# Altium footprint library V2S.PcbLib: 37 footprints (part 1 of 3)
Each footprint in its own frame and in the unit in brackets; x right, y up, seen from the top. Pads: shape width x height; smd on the part's side, far side on the other; paste and mask are expansions set on the pad; w line width, h text height; cw(c..) or ccw(c..) is an arc to the next point about the centre after c.
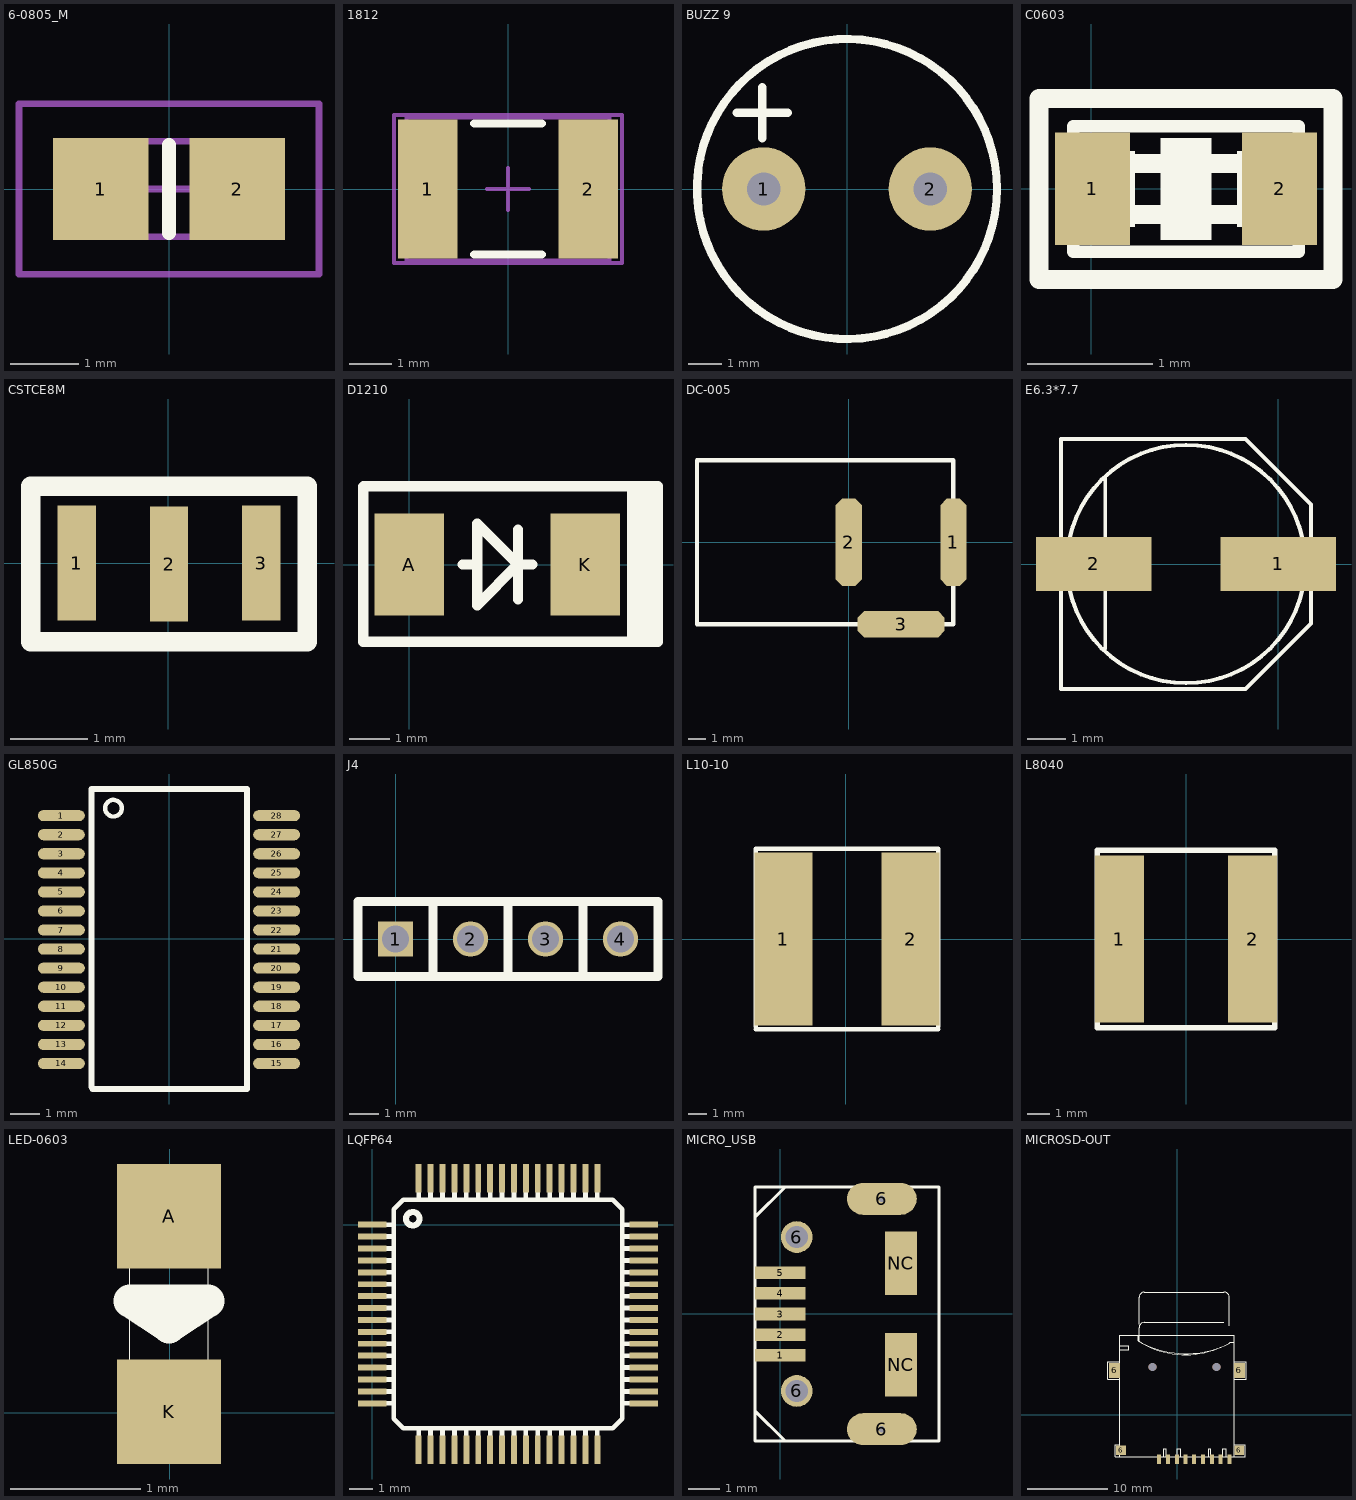
[diagram p0: the footprints below, top view; thin cyan lines are the x and y axes]

## 6-0805_M [mm] "Chip Resistor, Body 2.0x1.2mm, IPC Low Density"
height 0.7
pads (2):
  rect 1.4x1.5 smd: 1(-1,0) 2(1,0)
Top Overlay:
  lines w0.2: 0,-0.65 0,0.65
Mechanical 13:
  lines w0.1: -1.075,-0.7 -1.075,0.7 1.075,0.7 1.075,-0.7 -1.075,-0.7
Mechanical 15:
  lines w0.1: -0.5,0 0.5,0 ; 0,-0.5 0,0.5 ; -2.2,-1.25 -2.2,1.25 2.2,1.25 2.2,-1.25 -2.2,-1.25
3D body: height 0.7, standoff 0, extent -1.075,-0.7 1.075,0.7

## 1812 [mm] "Chip Capacitor, Body 4.5x3.2mm, IPC High Density"
height 1.4
pads (2):
  rect 1.4x3.3 smd: 1(-1.9,0) 2(1.9,0)
Top Overlay:
  lines w0.2: -0.8,-1.55 0.8,-1.55 ; -0.8,1.55 0.8,1.55
Mechanical 13:
  lines w0.1: -2.4,-1.7 2.4,-1.7 2.4,1.7 -2.4,1.7 -2.4,-1.7
Mechanical 15:
  lines w0.1: -0.5,0 0.5,0 ; 0,-0.5 0,0.5 ; -2.7,-1.75 2.7,-1.75 2.7,1.75 -2.7,1.75 -2.7,-1.75
3D body: height 1.4, standoff 0, extent -2.4,-1.7 2.4,1.7

## BUZZ 9 [mm]
pads (2):
  round 2.5 hole 1: 1(-2.51,0.012) 2(2.49,0.012)
Top Overlay:
  circle w0.25: c-0.01,0.012 r4.5
  lines w0.254: -3.312,2.298 -1.788,2.298 ; -2.55,1.536 -2.55,3.06

## C0603 [mm]
pads (2):
  rect 0.6x0.9 smd: 1(0.01,0) 2(1.51,0)
Top Overlay:
  rectangle: 0.56,-0.3 0.96,0.3
  rectangle: 0.049,-0.305 0.354,0.305
  rectangle: 1.167,-0.305 1.471,0.305
  rectangle: 1.167,-0.305 1.471,0.305
  rectangle: 0.557,-0.406 0.963,0.406
  lines w0.1: -0.14,-0.5 1.66,-0.5 1.66,0.5 -0.14,0.5 -0.14,-0.5
  lines w0.15: 0.252,-0.203 1.268,-0.203 ; 0.252,0.203 1.268,0.203 ; 0.76,-0.051 0.76,0.051 ; -0.415,-0.725 1.935,-0.725 1.935,0.725 -0.415,0.725 -0.415,-0.725

## CSTCE8M [mm]
pads (3):
  rect 0.5x1.5 smd: 1(-1.192,0) 2(0.008,-0.013) 3(1.208,0)
Top Overlay:
  lines w0.254: -1.792,-1.025 1.808,-1.025 1.808,1 -1.792,1 -1.792,-1.025

## D1210 [mm]
pads (2):
  rect 1.7x2.5 smd: A(-0.005,-0.004) K(4.313,-0.004)
Top Overlay:
  lines w0.254: -1.128,1.9 -1.128,-1.888 6.091,-1.888 ; -1.116,1.912 6.091,1.912 ; 1.311,0.001 1.661,0.001 ; 2.661,-0.849 2.661,0.851 ; 3.011,0.001 2.661,0.001 ; 5.461,-1.838 5.461,1.912 ; 5.583,-1.884 5.583,1.875 ; 6.091,-1.884 6.091,1.875 ; 2.661,0.001 1.661,1.001 1.661,-0.999 2.661,0.001
  lines w0.5: 5.854,-1.667 5.854,1.791

## DC-005 [mm]
pads (3):
  oct 1.5x5 hole 0.1: 1(5.993,-0.009) 2(-0.007,-0.009)
  oct 5x1.5 hole 0.1: 3(2.993,-4.709)
Top Overlay:
  lines w0.254: -8.707,-4.709 5.993,-4.709 5.993,4.691 -8.707,4.691 -8.707,-4.709
Keep-Out Layer:
  lines w0.4: -0.007,-1.509 -0.007,-0.009 -0.007,1.491 ; 1.493,-4.709 2.993,-4.709 4.493,-4.709 ; 5.993,-1.509 5.993,-0.009 5.993,1.491

## E6.3*7.7 [mm]
pads (2):
  rect 3x1.4 smd: 1(-0.002,0.011) 2(-4.802,0.011)
Top Overlay:
  circle w0.102: c-2.402,0.011 r3.1
  rectangle: -6.052,-0.339 -5.452,0.361
  rectangle: 0.648,-0.339 1.248,0.361
  lines w0.102: -5.652,-0.939 -5.652,-3.239 ; -5.652,0.961 -5.652,3.261 ; -5.352,-0.939 ccw(c-2.402,0.011) 0.548,-0.939 ; -5.352,0.961 cw(c-2.402,0.011) 0.548,0.961 ; -4.502,-2.189 -4.502,2.261 ; 0.848,-0.939 0.848,-1.539 ; 0.848,0.961 0.848,1.561 ; -5.652,-3.239 -0.852,-3.239 ; -5.652,-3.239 -5.652,3.261 ; -5.652,-3.239 -0.852,-3.239 ; -5.652,3.261 -0.852,3.261 ; -5.652,3.261 -0.852,3.261 ; -0.852,-3.239 0.848,-1.539 ; -0.852,-3.239 0.848,-1.539 ; -0.852,3.261 0.848,1.561 ; -0.852,3.261 0.848,1.561 ; 0.848,-1.539 0.848,1.561

## GL850G [mm]
height 2
pads (28):
  oval 1.6x0.38 smd: 1(-3.683,4.191) 2(-3.683,3.541) 3(-3.683,2.891) 4(-3.683,2.241) 5(-3.683,1.591) 6(-3.683,0.941) 7(-3.683,0.291) 8(-3.683,-0.359) 9(-3.683,-1.009) 10(-3.683,-1.659) 11(-3.683,-2.309) 12(-3.683,-2.959) 13(-3.683,-3.609) 14(-3.683,-4.259) 15(3.658,-4.259) 16(3.658,-3.609) 17(3.658,-2.959) 18(3.658,-2.309) 19(3.658,-1.659) 20(3.658,-1.009) 21(3.658,-0.359) 22(3.658,0.291) 23(3.658,0.941) 24(3.658,1.591) 25(3.658,2.241) 26(3.658,2.891) 27(3.658,3.541) 28(3.658,4.191)
Top Overlay:
  circle w0.15: c-1.905,4.445 r0.284
  lines w0.2: -2.65,-5.063 -2.65,5.1 2.65,5.1 2.65,-5.13 -2.617,-5.13

## J4 [mm]
pads (4):
  rect 1.2x1.2 hole 0.9: 1(-0.001,0.01)
  round 1.2 hole 0.9: 2(2.539,0.01) 3(5.079,0.01) 4(7.619,0.01)
Top Overlay:
  lines w0.305: -1.271,-0.99 -1.271,-1.26 ; 1.269,-1.26 1.269,1.28 ; -1.271,-1.26 3.809,-1.26 ; -1.271,-1.26 -1.271,1.28 3.809,1.28 ; 3.809,-1.26 3.809,1.28 ; 3.809,-1.26 6.349,-1.26 ; 3.809,1.28 6.349,1.28 ; 6.349,-1.26 6.349,1.28 ; 6.349,-1.26 6.349,1.28 ; 6.349,-1.26 8.889,-1.26 8.889,1.28 6.349,1.28

## L10-10 [mm]
pads (2):
  rect 3.2x9.5 smd: 1(-3.429,0) 2(3.556,0)
Top Overlay:
  lines w0.254: -4.953,-4.953 5.08,-4.953 ; -4.953,-4.826 -4.953,4.953 5.08,4.953 5.08,-4.826

## L8040 [mm]
pads (2):
  rect 2.2x7.5 smd: 1(-3.002,0.005) 2(2.998,0.005)
Top Overlay:
  lines w0.254: -4.002,-3.995 3.998,-3.995 3.998,4.005 -4.002,4.005 -4.002,-3.995

## LED-0603 [mm]
pads (2):
  rect 0.8x0.8 smd: A(-0.004,1.506) K(-0.004,0.007)
Top Overlay:
  lines w0: -0.304,-0.043 0.296,-0.043 0.296,1.556 -0.304,1.556 -0.304,-0.043
  lines w0.25: -0.304,0.856 -0.004,0.657 0.296,0.856 -0.304,0.856

## LQFP64 [mm]
pads (64):
  rect 1.2x0.25 smd: 1(-0.005,0.01) 2(-0.005,-0.49) 3(-0.005,-0.99) 4(-0.005,-1.49) 5(-0.005,-1.99) 6(-0.005,-2.49) 7(-0.005,-2.99) 8(-0.005,-3.49) 9(-0.005,-3.99) 10(-0.005,-4.49) 11(-0.005,-4.99) 12(-0.005,-5.49) 13(-0.005,-5.99) 14(-0.005,-6.49) 15(-0.005,-6.99) 16(-0.005,-7.49) 33(11.395,-7.49) 34(11.395,-6.99) 35(11.395,-6.49) 36(11.395,-5.99) 37(11.395,-5.49) 38(11.395,-4.99) 39(11.395,-4.49) 40(11.395,-3.99) 41(11.395,-3.49) 42(11.395,-2.99) 43(11.395,-2.49) 44(11.395,-1.99) 45(11.395,-1.49) 46(11.395,-0.99) 47(11.395,-0.49) 48(11.395,0.009)
  rect 0.25x1.2 smd: 17(1.945,-9.44) 18(2.445,-9.44) 19(2.945,-9.44) 20(3.445,-9.44) 21(3.945,-9.44) 22(4.445,-9.44) 23(4.945,-9.44) 24(5.445,-9.44) 25(5.945,-9.44) 26(6.445,-9.44) 27(6.945,-9.44) 28(7.445,-9.44) 29(7.945,-9.44) 30(8.445,-9.44) 31(8.945,-9.44) 32(9.445,-9.44) 49(9.445,1.96) 50(8.945,1.96) 51(8.445,1.96) 52(7.945,1.959) 53(7.445,1.959) 54(6.945,1.959) 55(6.445,1.96) 56(5.945,1.96) 57(5.445,1.96) 58(4.945,1.96) 59(4.445,1.96) 60(3.945,1.96) 61(3.445,1.96) 62(2.945,1.96) 63(2.445,1.96) 64(1.945,1.96)
Top Overlay:
  circle w0.254: c1.695,0.26 r0.283
  rectangle: -0.305,-0.09 0.895,0.11
  rectangle: -0.305,-0.59 0.895,-0.39
  rectangle: -0.305,-1.09 0.895,-0.89
  rectangle: -0.305,-1.59 0.895,-1.39
  rectangle: -0.305,-2.09 0.895,-1.89
  rectangle: -0.305,-2.59 0.895,-2.39
  rectangle: -0.305,-3.09 0.895,-2.89
  rectangle: -0.305,-3.59 0.895,-3.39
  rectangle: -0.305,-4.09 0.895,-3.89
  rectangle: -0.305,-4.59 0.895,-4.39
  rectangle: -0.305,-5.09 0.895,-4.89
  rectangle: -0.305,-5.59 0.895,-5.39
  rectangle: -0.305,-6.09 0.895,-5.89
  rectangle: -0.305,-6.59 0.895,-6.39
  rectangle: -0.305,-7.09 0.895,-6.89
  rectangle: -0.305,-7.59 0.895,-7.39
  rectangle: 1.845,-9.74 2.045,-8.54
  rectangle: 2.345,-9.74 2.545,-8.54
  rectangle: 2.845,-9.74 3.045,-8.54
  rectangle: 3.345,-9.74 3.545,-8.54
  rectangle: 3.845,-9.74 4.045,-8.54
  rectangle: 4.345,-9.74 4.545,-8.54
  rectangle: 4.845,-9.74 5.045,-8.54
  rectangle: 5.345,-9.74 5.545,-8.54
  rectangle: 5.845,-9.74 6.045,-8.54
  rectangle: 6.345,-9.74 6.545,-8.54
  rectangle: 6.845,-9.74 7.045,-8.54
  rectangle: 7.345,-9.74 7.545,-8.54
  rectangle: 7.845,-9.74 8.045,-8.54
  rectangle: 8.345,-9.74 8.545,-8.54
  rectangle: 8.845,-9.74 9.045,-8.54
  rectangle: 9.345,-9.74 9.545,-8.54
  rectangle: 10.495,-7.59 11.695,-7.39
  rectangle: 10.495,-7.09 11.695,-6.89
  rectangle: 10.495,-6.59 11.695,-6.39
  rectangle: 10.495,-6.09 11.695,-5.89
  rectangle: 10.495,-5.59 11.695,-5.39
  rectangle: 10.495,-5.09 11.695,-4.89
  rectangle: 10.495,-4.59 11.695,-4.39
  rectangle: 10.495,-4.09 11.695,-3.89
  rectangle: 10.495,-3.59 11.695,-3.39
  rectangle: 10.495,-3.09 11.695,-2.89
  rectangle: 10.495,-2.59 11.695,-2.39
  rectangle: 10.495,-2.09 11.695,-1.89
  rectangle: 10.495,-1.59 11.695,-1.39
  rectangle: 10.495,-1.09 11.695,-0.89
  rectangle: 10.495,-0.591 11.695,-0.39
  rectangle: 10.495,-0.091 11.695,0.11
  rectangle: 9.345,1.06 9.545,2.26
  rectangle: 8.845,1.06 9.045,2.26
  rectangle: 8.345,1.06 8.545,2.259
  rectangle: 7.845,1.06 8.045,2.26
  rectangle: 7.345,1.06 7.545,2.26
  rectangle: 6.845,1.06 7.045,2.26
  rectangle: 6.345,1.06 6.545,2.26
  rectangle: 5.845,1.06 6.045,2.26
  rectangle: 5.345,1.06 5.545,2.26
  rectangle: 4.845,1.06 5.045,2.26
  rectangle: 4.345,1.06 4.545,2.26
  rectangle: 3.845,1.06 4.045,2.26
  rectangle: 3.345,1.06 3.545,2.26
  rectangle: 2.845,1.06 3.045,2.26
  rectangle: 2.345,1.06 2.545,2.26
  rectangle: 1.845,1.06 2.045,2.26
  lines w0.002: 0.895,-8.14 0.895,0.66 1.295,1.06 10.095,1.06 10.495,0.66 10.495,-8.14 10.095,-8.54 1.295,-8.54 0.895,-8.14
  lines w0.203: 0.895,-8.14 1.295,-8.54 10.095,-8.54 10.495,-8.14 10.495,0.66 10.095,1.06 1.295,1.06 0.895,0.66 0.895,-8.14

## MICRO_USB [mm]
pads (11):
  rect 1.6x0.4 smd: 1(-0.003,-1.308) 2(-0.003,-0.658) 3(-0.003,-0.008) 4(-0.003,0.642) 5(-0.003,1.292)
  round 1 hole 0.7: 6(0.517,-2.433) 6(0.517,2.417)
  oval 2.2x1 hole 0.2: 6(3.197,-3.633) 6(3.197,3.617)
  rect 1x2 smd: NC(3.797,-1.608) NC(3.797,1.592)
Top Overlay:
  lines w0.102: -0.803,-3.056 0.149,-4.008 ; -0.803,3.04 0.149,3.992 ; -0.803,-4.008 4.997,-4.008 4.997,3.992 -0.803,3.992 -0.803,-4.008
Keep-Out Layer:
  lines w0.7: 2.647,-3.633 3.197,-3.633 3.747,-3.633 ; 2.647,3.617 3.197,3.617 3.747,3.617

## MICROSD-OUT [mm]
pads (13):
  rect 0.5x1.2 smd: 1(-2.25,-5.55) 2(-1.15,-5.55) 3(0,-5.55) 4(1.05,-5.55) 5(2.15,-5.55) 6(3.25,-5.55) 7(4.35,-5.55) 8(5.45,-5.55) 9(6.55,-5.55)
  rect 1.4x1.9 smd: 6(-7.8,5.55) 6(7.8,5.55)
  rect 1.2x1.2 smd: 6(-7,-4.45) 6(7.8,-4.45)
via -3.05,5.95 diameter 1 hole 1
via 4.95,5.95 diameter 1 hole 1
Top Overlay:
  lines w0.008: -4.75,9.15 -4.75,10.91 cw(c-4.11,10.91) -4.11,11.55 5.843,11.55 ; -4.75,11.35 -4.75,14.71 cw(c-4.11,14.71) -4.11,15.35 5.843,15.35 cw(c5.843,14.643) 6.55,14.643 ; 6.55,11.15 6.55,14.643
  lines w0.1: -7.15,-3.75 -7.75,-3.75 -7.75,-5.25 ; -7.15,4.45 -8.65,4.45 -8.65,6.65 -7.15,6.65 ; 7.15,-3.75 8.55,-3.75 8.55,-5.25 ; 7.15,4.45 8.65,4.45 8.65,6.65 7.15,6.65 ; -7.75,-5.25 -7.75,-5.25 ; -7.75,-5.25 -7.15,-5.25 ; -7.15,-5.25 7.15,-5.25 ; -7.15,-5.25 -7.15,9.95 7.15,9.95 7.15,-5.25 ; 7.15,-5.25 8.55,-5.25 ; 8.55,-5.25 8.55,-5.25
  lines w0.127: -7.15,7.65 -7.15,-5.25 ; -1.9,-5.25 -7.15,-5.25 ; 0.575,-5.25 3.825,-5.25 ; 5.611,8.523 cw(c1.044,18.43) -4.85,9.25 ; 6.275,-5.25 7.15,-5.25 ; 6.55,8.95 cw(c1.124,19.501) -4.85,9.25 ; 6.55,8.95 6.65,9.05 7.15,9.05 7.15,-5.25 ; 7.15,6.55 7.15,-5.25 ; -7.15,-5.25 -7.15,8.15 -6.05,8.15 -6.05,8.65 -7.15,8.65 -7.15,9.95 -4.85,9.95 -4.85,9.25 ; -7.15,-5.25 -1.65,-5.25 -1.65,-4.25 -1.35,-4.25 -1.35,-5.25 0.05,-5.25 0.05,-4.25 0.45,-4.25 0.45,-5.25 3.95,-5.25 3.95,-4.25 4.25,-4.25 4.25,-5.25 5.75,-5.25 5.75,-4.25 6.15,-4.25 6.15,-5.25 7.15,-5.25